# Altium footprint library TDFN33-8.PcbLib: 1 footprints
Each footprint in its own frame and in the unit in brackets; x right, y up, seen from the top. Pads: shape width x height; smd on the part's side, far side on the other; paste and mask are expansions set on the pad; w line width, h text height; cw(c..) or ccw(c..) is an arc to the next point about the centre after c.
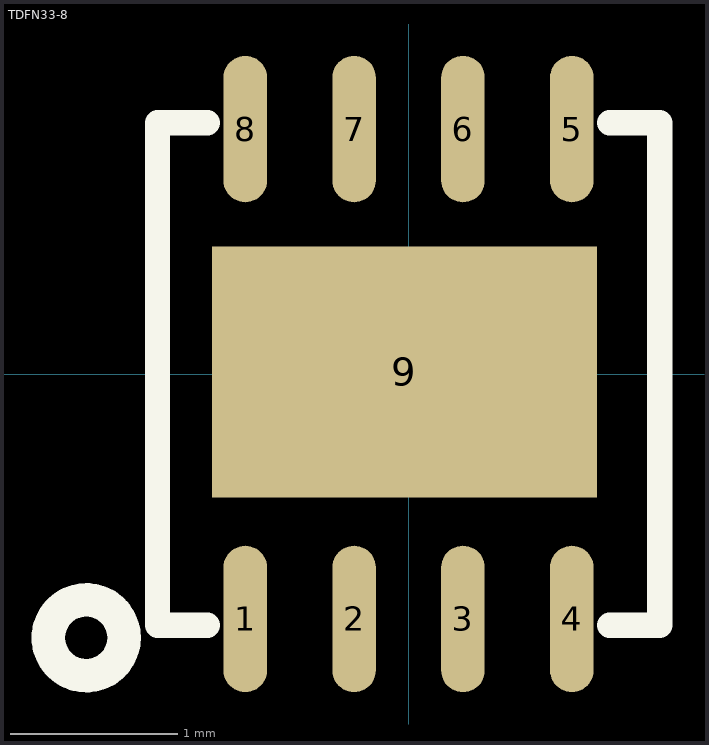
[diagram p0: the footprint, top view; thin cyan lines are the x and y axes]

## TDFN33-8 [mm]
pads (9):
  oval 0.26x0.875 smd: 1(-0.975,-1.462) 2(-0.325,-1.462) 3(0.325,-1.462) 4(0.975,-1.462) 5(0.975,1.462) 6(0.325,1.462) 7(-0.325,1.462) 8(-0.975,1.462)
  rect 2.3x1.5 smd: 9(-0.025,0.012)
Top Overlay:
  circle w0.2: c-1.925,-1.575 r0.226
  lines w0.15: -1.2,-1.5 -1.5,-1.5 -1.5,1.5 -1.2,1.5 ; 1.2,-1.5 1.5,-1.5 1.5,1.5 1.2,1.5
3D body: height 0.7, standoff -0.05, extent -1.5,-1.501 1.5,1.501